# Altium schematic symbol library IC Interface.SchLib: 15 symbols
Pins are listed as number, name and electrical type; pins without a type are passive.

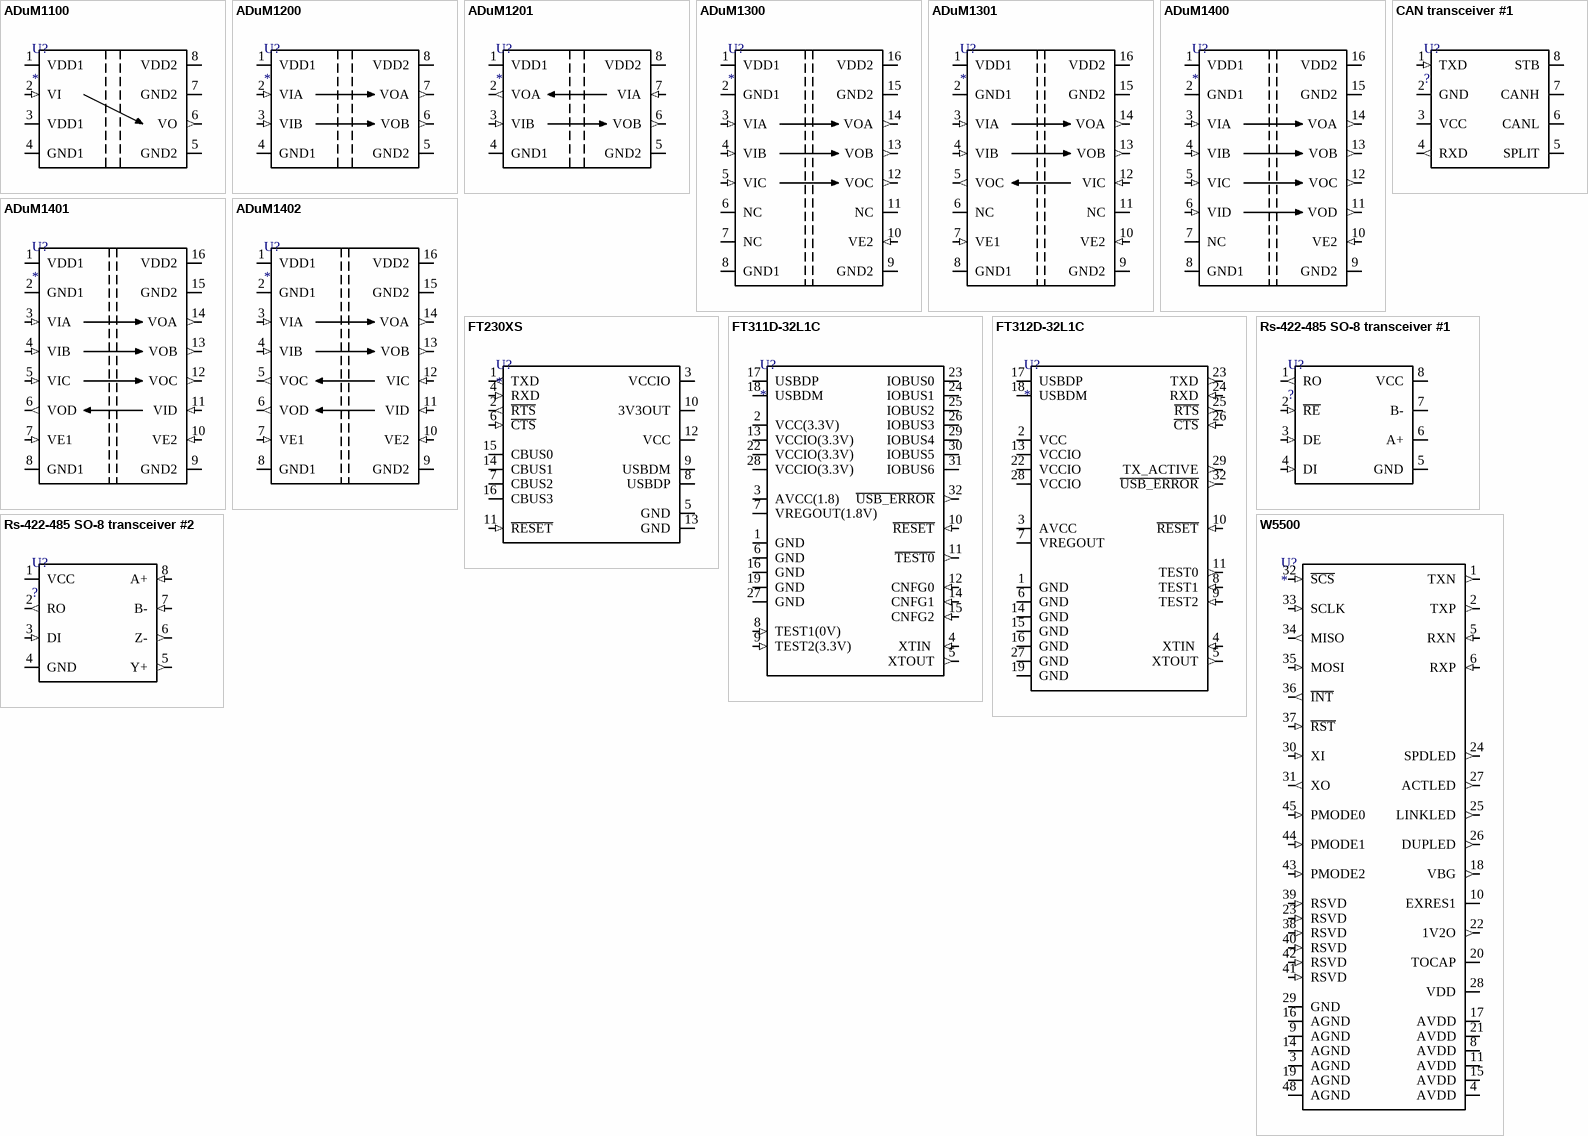
[diagram p0: symbols ADuM1100 to W5500]

## ADuM1100
designator U?
Digital Isolator 2 channels; Name: *
pins: 1 VDD1 (power), 2 VI (in), 3 VDD1 (power), 4 GND1 (power), 5 GND2 (power), 6 VO (out), 7 GND2 (power), 8 VDD2 (power)

## ADuM1200
designator U?
Digital Isolator 2 channels; Name: *
pins: 1 VDD1 (power), 2 VIA (in), 3 VIB (in), 4 GND1 (power), 5 GND2 (power), 6 VOB (out), 7 VOA (out), 8 VDD2 (power)

## ADuM1201
designator U?
Digital Isolator 2 channels; Name: *
pins: 1 VDD1 (power), 2 VOA (out), 3 VIB (in), 4 GND1 (power), 5 GND2 (power), 6 VOB (out), 7 VIA (in), 8 VDD2 (power)

## ADuM1300
designator U?
Digital Isolator 3 channels; Name: *
pins: 1 VDD1 (power), 2 GND1 (power), 3 VIA (in), 4 VIB (in), 5 VIC (in), 6 NC, 7 NC, 8 GND1 (power), 9 GND2 (power), 10 VE2 (in), 11 NC, 12 VOC (out), 13 VOB (out), 14 VOA (out), 15 GND2 (power), 16 VDD2 (power)

## ADuM1301
designator U?
Digital Isolator 3 channels; Name: *
pins: 1 VDD1 (power), 2 GND1 (power), 3 VIA (in), 4 VIB (in), 5 VOC (out), 6 NC, 7 VE1 (in), 8 GND1 (power), 9 GND2 (power), 10 VE2 (in), 11 NC, 12 VIC (in), 13 VOB (out), 14 VOA (out), 15 GND2 (power), 16 VDD2 (power)

## ADuM1400
designator U?
Digital Isolator 3 channels; Name: *
pins: 1 VDD1 (power), 2 GND1 (power), 3 VIA (in), 4 VIB (in), 5 VIC (in), 6 VID (in), 7 NC, 8 GND1 (power), 9 GND2 (power), 10 VE2 (in), 11 VOD (out), 12 VOC (out), 13 VOB (out), 14 VOA (out), 15 GND2 (power), 16 VDD2 (power)

## ADuM1401
designator U?
Digital Isolator 3 channels; Name: *
pins: 1 VDD1 (power), 2 GND1 (power), 3 VIA (in), 4 VIB (in), 5 VIC (in), 6 VOD (out), 7 VE1 (in), 8 GND1 (power), 9 GND2 (power), 10 VE2 (in), 11 VID (in), 12 VOC (out), 13 VOB (out), 14 VOA (out), 15 GND2 (power), 16 VDD2 (power)

## ADuM1402
designator U?
Digital Isolator 3 channels; Name: *
pins: 1 VDD1 (power), 2 GND1 (power), 3 VIA (in), 4 VIB (in), 5 VOC (out), 6 VOD (out), 7 VE1 (in), 8 GND1 (power), 9 GND2 (power), 10 VE2 (in), 11 VID (in), 12 VIC (in), 13 VOB (out), 14 VOA (out), 15 GND2 (power), 16 VDD2 (power)

## CAN transceiver #1
designator U?, comment ?
CAN transceiver with standby; Part Number: ?; Name: ?
pins: 1 TXD (in), 2 GND (power), 3 VCC (power), 4 RXD (out), 5 SPLIT (power), 6 CANL (io), 7 CANH (io), 8 STB (io)

## FT230XS
designator U?
pins: 1 TXD (out), 2 ~{RTS} (out), 3 VCCIO (power), 4 RXD (in), 5 GND (power), 6 ~{CTS} (in), 7 CBUS2 (io), 8 USBDP (io), 9 USBDM (io), 10 3V3OUT (power), 11 ~{RESET} (in), 12 VCC (power), 13 GND (power), 14 CBUS1 (io), 15 CBUS0 (io), 16 CBUS3 (io)

## FT311D-32L1C
designator U?
Name: *; Part Number: *
pins: 1 GND (power), 2 VCC(3.3V) (power), 3 AVCC(1.8) (power), 4 XTIN  (in), 5 XTOUT (out), 6 GND (power), 7 VREGOUT(1.8V) (power), 8 TEST1(0V) (in), 9 TEST2(3.3V) (in), 10 ~{RESET} (in), 11 ~{TEST0} (out), 12 CNFG0 (in), 13 VCCIO(3.3V) (power), 14 CNFG1 (in), 15 CNFG2 (in), 16 GND (power), 17 USBDP (io), 18 USBDM (io), 19 GND (power), 22 VCCIO(3.3V) (power), 23 IOBUS0 (io), 24 IOBUS1 (io), 25 IOBUS2 (io), 26 IOBUS3 (io), 27 GND (power), 28 VCCIO(3.3V) (power), 29 IOBUS4 (io), 30 IOBUS5 (io), 31 IOBUS6 (io), 32 ~{USB_ERROR} (out)

## FT312D-32L1C
designator U?
Name: *; Part Number: *
pins: 1 GND (power), 2 VCC (power), 3 AVCC (power), 4 XTIN  (in), 5 XTOUT (out), 6 GND (power), 7 VREGOUT (power), 8 TEST1 (in), 9 TEST2 (in), 10 ~{RESET} (in), 11 TEST0 (out), 13 VCCIO (power), 14 GND (power), 15 GND (power), 16 GND (power), 17 USBDP (io), 18 USBDM (io), 19 GND (power), 22 VCCIO (power), 23 TXD (out), 24 RXD (in), 25 ~{RTS} (out), 26 ~{CTS} (in), 27 GND (power), 28 VCCIO (power), 29 TX_ACTIVE (out), 32 ~{USB_ERROR} (out)

## Rs-422-485 SO-8 transceiver #1
designator U?, comment ?
ADM3483E ADM3486E; Name: ?
pins: 1 RO (out), 2 ~{RE} (in), 3 DE (in), 4 DI (in), 5 GND (power), 6 A+ (io), 7 B- (io), 8 VCC (power)

## Rs-422-485 SO-8 transceiver #2
designator U?, comment ?
ADM3488E ADM3490E; Name: ?
pins: 1 VCC (power), 2 RO (out), 3 DI (in), 4 GND (power), 5 Y+ (out), 6 Z- (out), 7 B- (in), 8 A+ (in)

## W5500
designator U?
Internet Offload Chip; Name: *
pins: 1 TXN (out), 2 TXP (out), 3 AGND (power), 4 AVDD (power), 5 RXN (in), 6 RXP (in), 8 AVDD (power), 9 AGND (power), 10 EXRES1 (io), 11 AVDD (power), 14 AGND (power), 15 AVDD (power), 16 AGND (power), 17 AVDD (power), 18 VBG (out), 19 AGND (power), 20 TOCAP (power), 21 AVDD (power), 22 1V2O (out), 23 RSVD (in), 24 SPDLED (out), 25 LINKLED (out), 26 DUPLED (out), 27 ACTLED (out), 28 VDD (power), 29 GND (power), 30 XI (in), 31 XO (out), 32 ~{SCS} (in), 33 SCLK (in), 34 MISO (out), 35 MOSI (in), 36 ~{INT} (out), 37 ~{RST} (in), 38 RSVD (in), 39 RSVD (in), 40 RSVD (in), 41 RSVD (in), 42 RSVD (in), 43 PMODE2 (in), 44 PMODE1 (in), 45 PMODE0 (in), 48 AGND (power)